# Altium schematic symbol library FuseHolder.SchLib: 1 symbol
Pins are listed as number, name and electrical type; pins without a type are passive.

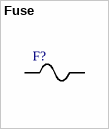
[diagram p0: symbol Fuse]

## Fuse
designator F?  (value not drawn)
Fuse 6x25mm; Digi-Key Part Number: 283-2601-ND; Digi-Key Part Number: 283-3410-ND
footprint FH_25mm (Para Fuse de 25mm y diam 6mm)
footprint FUSEBLOCKSMD (Fuse Block Cartridge SMD)
pins: 1, 2